# Altium schematic symbol library BTH.SchLib: 1 symbol
Pins are listed as number, name and electrical type; pins without a type are passive.

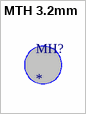
[diagram p0: symbol MTH 3.2mm]

## MTH 3.2mm
designator MH?  (mechanical)
footprint MTH3P2mm